# Altium schematic symbol library ADA4528-2ARMZ-R7.SCHLIB: 1 symbol
Pins are listed as number, name and electrical type; pins without a type are passive.

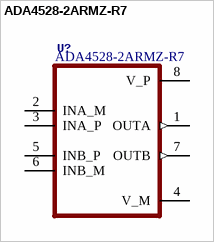
[diagram p0: symbol ADA4528-2ARMZ-R7]

## ADA4528-2ARMZ-R7
designator U?, comment MP: ADA4528-2ARMZ-R7  (hidden comment: Op Amp Dual GP R-R I/O ±2.75V/5.5V 8-Pin MSOP T/R Check availability)
GateName_1: G$1; MF: Analog Devices; SymbolName_1: ADA4528-2ARMZ-R7; LibraryName: ADA4528-2ARMZ-R7; DeviceSetName: ADA4528-2ARMZ-R7; Purchase-URL: https://pricing.snapeda.com/search/part/ADA4528-2ARMZ-R7/?ref=eda; Availability: In Stock; Price: None; Package: MSOP-8 Analog Devices
footprint SOP65P490X110-8N
pins: 1 OUTA (out), 2 INA_M, 3 INA_P, 4 V_M (power), 5 INB_P, 6 INB_M, 7 OUTB (out), 8 V_P (power)